# EAGLE library part AD8330 (library IC)
Analog Devices AD8330 DC-150 MHz Variable Gain Amplifier
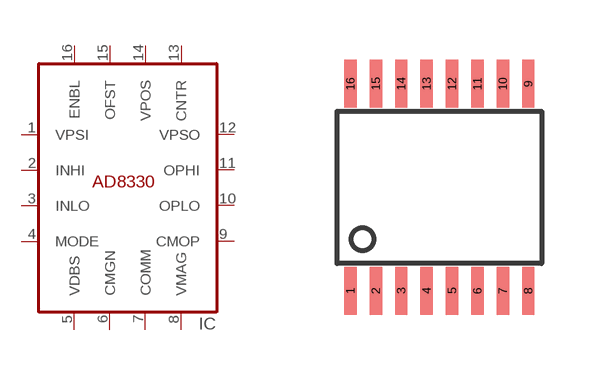
[diagram p148: symbol with the pads of QSOP-16; footprint QSOP-16]

Designator prefix IC

## AD8330  [QSOP-16]
1  VPSI
2  INHI
3  INLO
4  MODE
5  VDBS
6  CMGN
7  COMM
8  VMAG
9  CMOP
10  OPLO
11  OPHI
12  VPSO
13  CNTR
14  VPOS
15  OFST
16  ENBL

## Footprint QSOP-16 (pad centres in mm)
QSOP 16 pin package
smd 0.31 x 1.2: 1 -1.905,-2.59; 2 -1.27,-2.59; 3 -0.635,-2.59; 4 0,-2.59; 5 0.635,-2.59; 6 1.27,-2.59; 7 1.905,-2.59; 8 2.54,-2.59; 9 2.54,2.59; 10 1.905,2.59; 11 1.27,2.59; 12 0.635,2.59; 13 0,2.59; 14 -0.635,2.59; 15 -1.27,2.59; 16 -1.905,2.59